# Altium schematic symbol library MM6108IQ MotherBoard_1.SCHLIB: 35 symbols
Pins are listed as number, name and electrical type; pins without a type are passive.

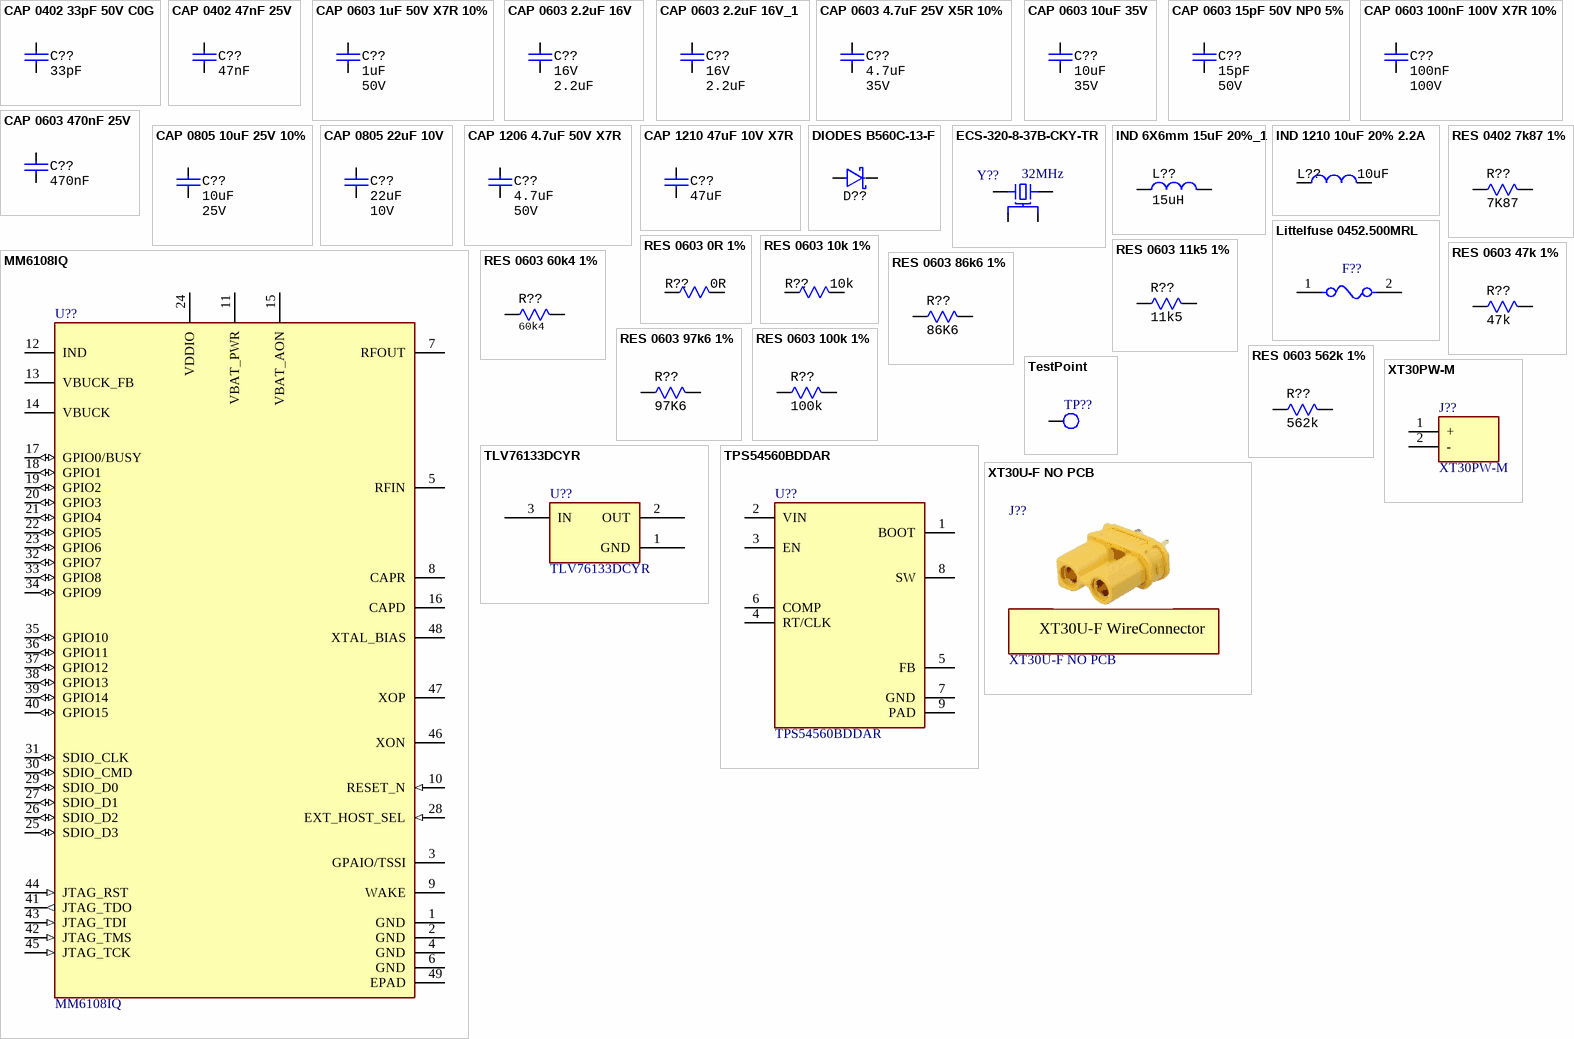
[diagram p0: symbols CAP 0402 33pF 50V C0G to XT30U-F NO PCB]

## CAP 0402 33pF 50V C0G
designator C??, comment 33pF
CAP CER 33pF 50V C0G 0402; Manufacturer: Samsung Electro-Mechanics; Manufacturer Part Number: GRM155R71E473KA88D; Capacitance: 33pF; Supplier: LCSC; Supplier Part Number: C70465; Voltage: 50V
footprint CAP Ceramic SMD 0402
pins: 1, 2

## CAP 0402 47nF 25V
designator C??, comment 47nF
CAP CER 47nF 25V X7R 0402; Manufacturer: muRata; Manufacturer Part Number: GRM155R71E473KA88D; Dielectric Material: Ceramic; Dissipation Factor: 2.5%; Insulation Resistance: 10GR; Tolerance: 10%; Depth: 0.8mm; Capacitance: 47nF; Case Code (Imperial): 0603; Case Code (Metric): 1608; Case/Package: 0402; Category: Ceramic Capacitors; Dielectric: X7R; Halogen Free: Halogen Free; Height: 0.8mm; Lead Free: Lead Free; Length: 1.6mm; Material: Ceramic; Max Operating Temperature: 125°C; Min Operating Temperature: -55°C; Mount: Surface Mount; Number of Pins: 2; Package Quantity: 1; Packaging: Tape and Reel; Radiation Hardening: No; Resistor Type: Ceramic; RoHS Compliant: Yes; Series: CC; Termination: SMD/SMT; Thickness: 0.035inch; Voltage: 25V; Voltage Rating: 25V; Voltage Rating (DC): 25V; Width: 0.031inch; Supplier: LCSC; Supplier Part Number: C77017
footprint CAP Ceramic SMD 0402
pins: 1, 2

## CAP 0603 1uF 50V X7R 10%
designator C??  value 1uF  Voltage: 50V
50V 1uF X7R ±10% 0603 Multilayer Ceramic Capacitors MLCC - SMD/SMT ROHS; Manufacturer: YAGEO; Manufacturer Part Number: CC0603KRX7R9BB105; Supplier: LCSC; Temperature Characteristics Code: X7R; Supplier Part Number: C559769
footprint CAP Ceramic SMD 0603
pins: 1, 2

## CAP 0603 2.2uF 16V
designator C??, comment Voltage: 16V  (hidden comment: 2.2uF)
16V 2.2uF X5R ±10% 0603 Multilayer Ceramic Capacitors MLCC - SMD/SMT ROHS; Manufacturer: YAGEO; Manufacturer Part Number: CC0603KRX5R7BB225; Supplier: LCSC; Supplier Part Number: C106853; Capacitance: 2.2uF
footprint CAP Ceramic SMD 0603
pins: 1, 2

## CAP 0603 2.2uF 16V_1
designator C??, comment Voltage: 16V  (hidden comment: 2.2uF)
16V 2.2uF X5R ±10% 0603 Multilayer Ceramic Capacitors MLCC - SMD/SMT ROHS; Manufacturer: YAGEO; Manufacturer Part Number: CC0603KRX5R7BB225; Supplier: LCSC; Supplier Part Number: C106853; Capacitance: 2.2uF
footprint CAP Ceramic SMD 0603
pins: 1, 2

## CAP 0603 4.7uF 25V X5R 10%
designator C??  value 4.7uF  Voltage: 35V
25V 4.7uF X5R ±10% 0603 Multilayer Ceramic Capacitors MLCC - SMD/SMT ROHS; Manufacturer: Samsung Electro-Mechanics; Manufacturer Part Number: CL10A475KA8NQNC; Supplier: LCSC; Supplier Part Number: C69335; Temperature Characteristics Code: X5R
footprint CAP Ceramic SMD 0603
pins: 1, 2

## CAP 0603 10uF 35V
designator C??, comment Voltage: 35V  (hidden comment: 10uF)
Cap Ceramic 10uF 35V X5R 20% Pad SMD 0603 85C T/R; Manufacturer: Murata; Manufacturer Part Number: GRM188R6YA106MA73D; Supplier: LCSC; RoHS: Yes; Category: Ceramic Capacitors; Mount: Surface Mount; Case/Package: 0603; Case Code (Metric): 1608; Case Code (Imperial): 0603; Min Operating Temperature: -55°C; Max Operating Temperature: 85°C; Packaging: Tape and Reel; Capacitance: 10uF; Voltage Rating: 35V; Tolerance: 20%; Dielectric: X5R; Voltage Rating (DC): 35V; Length: 0.063inch; Width: 0.031inch; Thickness: 0.039inch; RoHS Compliant: Yes; ComponentLink1URL: http://search.murata.co.jp/Ceramy/image/img/A01X/G101/ENG/GRM188R6YA106MA73-01.pdf?src-supplier=Future+Electronics; ComponentLink1Description: http://search.murata.co.jp/Ceramy/image/img/A01X/G101/ENG/GRM188R6YA106MA73-01.pdf?src-supplier=Future+Electronics; ComponentLink2URL: http://search.murata.co.jp/Ceramy/image/img/A01X/G101/ENG/GRM188R6YA106MA73-01.pdf?src-supplier=Digi-Key; ComponentLink2Description: http://search.murata.co.jp/Ceramy/image/img/A01X/G101/ENG/GRM188R6YA106MA73-01.pdf?src-supplier=Digi-Key; ComponentLink3URL: https://www.murata.com/~/media/webrenewal/support/library/catalog/products/capacitor/mlcc/c02e.ashx?la=en-us&src-supplier=Digi-Key; ComponentLink3Description: https://www.murata.com/~/media/webrenewal/support/library/catalog/products/capacitor/mlcc/c02e.ashx?la=en-us&src-supplier=Digi-Key; ComponentLink4URL: http://search.murata.co.jp/Ceramy/image/img/A01X/G101/ENG/GRM188R6YA106MA73-01.pdf?src-supplier=Mouser; ComponentLink4Description: http://search.murata.co.jp/Ceramy/image/img/A01X/G101/ENG/GRM188R6YA106MA73-01.pdf?src-supplier=Mouser; ComponentLink5URL: http://search.murata.co.jp/Ceramy/image/img/A01X/G101/ENG/GRM188R6YA106MA73-01.pdf?src-supplier=TTI; ComponentLink5Description: http://search.murata.co.jp/Ceramy/image/img/A01X/G101/ENG/GRM188R6YA106MA73-01.pdf?src-supplier=TTI; Supplier Part Number: C194427; Value: 10uF
footprint CAP Ceramic SMD 0603
pins: 1, 2

## CAP 0603 15pF 50V NP0 5%
designator C??, comment Voltage: 50V  (hidden comment: 15pF)
50V 15pF NP0 ±5% 0603 Multilayer Ceramic Capacitors MLCC - SMD/SMT ROHS; Manufacturer: Yageo; Manufacturer Part Number: CC0603JRNPO9BN150; Supplier Part Number: C107037; Supplier: LCSC; Value: 15pF
footprint CAP Ceramic SMD 0603
pins: 1, 2

## CAP 0603 100nF 100V X7R 10%
designator C??  value 100nF  Voltage: 100V
100V 100nF X7R ±10% 0603 Multilayer Ceramic Capacitors MLCC - SMD/SMT ROHS; Manufacturer: Yageo; Manufacturer Part Number: CC0603KRX7R0BB104; Supplier: LCSC; Supplier Part Number: C113803; Temperature Characteristics Code: X7R
footprint CAP Ceramic SMD 0603
pins: 1, 2

## CAP 0603 470nF 25V
designator C??, comment 470nF
470nF ±10% 25V Ceramic Capacitor X7R 0603; Manufacturer: Samsung Electro-Mechanics; Manufacturer Part Number: CL10B474KA8NNNC; Dissipation Factor: 2.5%; Insulation Resistance: 10GR; Voltage: 50V; Depth: 0.8mm; Capacitance: 470nF; Case Code (Imperial): 0603; Case Code (Metric): 1608; Case/Package: 0603; Category: Ceramic Capacitors; Dielectric: X7R; Dielectric Material: Ceramic; Halogen Free: Halogen Free; Height: 0.8mm; Lead Free: Lead Free; Length: 1.6mm; Material: Ceramic; Max Operating Temperature: 125°C; Min Operating Temperature: -55°C; Mount: Surface Mount; Number of Pins: 2; Package Quantity: 1; Packaging: Tape and Reel; Radiation Hardening: No; Resistor Type: Ceramic; RoHS Compliant: Yes; Series: CC; Termination: SMD/SMT; Thickness: 0.035inch; Tolerance: 10%; Voltage Rating: 50V; Voltage Rating (DC): 50V; Width: 0.031inch; Supplier: LCSC; Supplier Part Number: C1623
footprint CAP Ceramic SMD 0603
pins: 1, 2

## CAP 0805 10uF 25V 10%
designator C??, comment Voltage: 25V  (hidden comment: 10uF)
CAP CER 10uF 25V X7R 0805; Manufacturer: Samsung Electro-Mechanics; Manufacturer Part Number: CL21B106KAYQNNE; Tolerance: 10%; Supplier: LCSC; RoHS: Yes; Category: Ceramic Capacitors; Mount: Surface Mount; Capacitance: 10uF; Supplier Part Number: C3039694; Value: 10uF
footprint CAP Ceramic SMD 0805
pins: 1, 2

## CAP 0805 22uF 10V
designator C??, comment Voltage: 10V  (hidden comment: 22uF)
CAP CER 22uF 10V X7R 0805; Manufacturer: muRata; Manufacturer Part Number: GRM21BZ71A226ME15L; Tolerance: 20%; Supplier: LCSC; RoHS: Yes; Category: Ceramic Capacitors; Stock 1: 663420; Pricing 1: 20=0.033200, 200=0.025500, 600=0.022100, 2000=0.019600, 10000=0.018600, 20000=0.017900 (AUD); Mount: Surface Mount; Case/Package: 0805; Case Code (Metric): 3216; Case Code (Imperial): 0805; Min Operating Temperature: -55°C; Max Operating Temperature: 125°C; Capacitance: 22uF; Dielectric: X7R; Packaging: Tape and Reel; Voltage Rating: 10V; Package Quantity: 1; Series: CL; Construction: Flat; Length: 3.2mm; Width: 0.063inch; Height: 1.6mm; Thickness: 0.071inch; Depth: 1.6mm; Radiation Hardening: No; RoHS Compliant: Yes; Supplier Part Number: C907991; Value: 22uF
footprint CAP Ceramic SMD 0805
pins: 1, 2

## CAP 1206 4.7uF 50V X7R
designator C??  value 4.7uF  Voltage: 50V
CAP CER 4.7uF 50V X7R 1206; Manufacturer: Samsung Electro-Mechanics; Manufacturer Part Number: CL31B475KBHNNNE; Supplier: LCSC; Supplier Part Number: C51205
footprint CAP Ceramic SMD 1206
pins: 1, 2

## CAP 1210 47uF 10V X7R
designator C??, comment 47uF
47uF ±10% 10V Ceramic Capacitor X7R 1210; Manufacturer: muRata; Manufacturer Part Number: GRM32ER71A476KE15L; Supplier: LCSC; Supplier Part Number: C84494; Case/Package: 1210; Value: 47uF; Temperature Characteristics Code: X7R; Voltage Rating: 10V
footprint CAP Ceramic SMD 1210
pins: 1, 2

## DIODES B560C-13-F
designator D??, comment B360A-13-F  (value not drawn)
Voltage： 60V Current： 5A; Manufacturer: DIODES; Manufacturer Part Number: B560C-13-F; Supplier: LCSC; Supplier Part Number: C85100
footprint DO-214AB
pins: 1, 2

## ECS-320-8-37B-CKY-TR
designator Y??, comment 32MHz
CRYSTAL 32MHz 8pF SMD; Manufacturer: ECS; Manufacturer Part Number: ECS-320-8-37B-CKY-TR; Supplier: LCSC; Supplier Part Number: C2636238
footprint XTAL_ECS-160-9-37-CKM-TR
pins: 1, 2 NC, 3, 4

## IND 6X6mm 15uF 20%_1
designator L??, comment 15uH
FIXED IND 15uH 2.5A 75mΩ SMD,6x6mm; Manufacturer: TDK; Manufacturer Part Number: VLS6045EX-150M; Suppleir Part Number: C404502; Supplier: LCSC
footprint IND SMD VLS6045EX
pins: 1, 2

## IND 1210 10uF 20% 2.2A
designator L??, comment 10uF
FIXED IND 10uH 2.2A 210mΩ 1210; Manufacturer: XR; Manufacturer Part Number: XRTC322512S100MBCA; Supplier: LCSC; Supplier Part Number: C39846661; Value: 10uF
footprint IND SMD 1210
pins: 1, 2

## Littelfuse 0452.500MRL
designator F??, comment 0452.500MRL  (value not drawn)
FUSE BRD MNT 500mA 125VAC/VDC 2410; Manufacturer: Littelfuse; Manufacturer Part Number: 0452.500MRL; Supplier: LCSC; Supplier Part Number: C151120
footprint Fuse SMD 2410 MFG
pins: 1, 2

## MM6108IQ
designator U??
Wi-Fi HaLow (pronounced HEYlow) is the first global Wi-Fi standard (IEEE 802.11ah) tailored to meet the / Internet of Things (IoT) needs. It’s an open standard wireless network technology operating in the sub-1 GHz / license-exempt RF bands (850-950 MHz range); Manufacturer: Morse Micro; Manufacturer Part Number: MM6108IQ; Supplier: *; Supplier Part Number: *
footprint QFN48 6x6
pins: 1 GND "ADC Test Data Out to FPGA (500MHz)", 2 GND "ADC Test Data Out to FPGA (500MHz)", 3 GPAIO/TSSI "ADC Test Data Out to FPGA (500MHz)", 4 GND (power) "ADC Test Data Out to FPGA (500MHz)", 5 RFIN, 6 GND (power), 7 RFOUT, 8 CAPR (power), 9 WAKE, 10 RESET_N (in), 11 VBAT_PWR (power), 12 IND, 13 VBUCK_FB (power), 14 VBUCK (power), 15 VBAT_AON (power), 16 CAPD (power), 17 GPIO0/BUSY (io), 18 GPIO1 (io), 19 GPIO2 (io), 20 GPIO3 (io), 21 GPIO4 (io), 22 GPIO5 (io), 23 GPIO6 (io), 24 VDDIO (power), 25 SDIO_D3 (io), 26 SDIO_D2 (io), 27 SDIO_D1 (io), 28 EXT_HOST_SEL (in), 29 SDIO_D0 (io), 30 SDIO_CMD (io), 31 SDIO_CLK (io), 32 GPIO7 (io), 33 GPIO8 (io), 34 GPIO9 (io), 35 GPIO10 (io), 36 GPIO11 (io), 37 GPIO12 (io), 38 GPIO13 (io), 39 GPIO14 (io), 40 GPIO15 (io), 41 JTAG_TDO (out), 42 JTAG_TMS (in), 43 JTAG_TDI (in), 44 JTAG_RST (in), 45 JTAG_TCK (in), 46 XON, 47 XOP, 48 XTAL_BIAS, 49 EPAD (power)

## RES 0402 7k87 1%
designator R??, comment 7K87
RES 7.87kΩ ±1% 62.5mW 0402; Manufacturer: YAGEO; Manufacturer Part Number: RC0402FR-077K87L; Max Power Dissipation: 100mW; Supplier: LCSC; Resistance: 7K87; Tolerance: 1%; Supplier Part Number: C185394; Stock 2: 800; Pricing 2: 50=0.009200, 500=0.007300, 1500=0.006200, 5000=0.005500, 25000=0.005000, 50000=0.004700 (AUD); Contact Plating: Tin; Number of Terminations: 2; Series: ERJ; Package Quantity: 1; Features: Automotive AEC-Q200; Construction: Rectangular; Resistance Tolerance: 1%; Technology: THICK FILM; Width: 0.031inch; Radiation Hardening: No; Lead Free: Lead Free; Value: 7K87
footprint CAP Ceramic SMD 0402
pins: 1, 2

## RES 0603 0R 1%
designator R??, comment 0R
100mW Thick Film Resistors 75V ±5% 0Ω 0603 Chip Resistor - Surface Mount ROHS; Manufacturer: YAGEO; Manufacturer Part Number: RC0603JR-070RL; Supplier: LCSC; Supplier Part Number: C95177; Value: 0R
footprint RES SMD 0603
pins: 1, 2

## RES 0603 10k 1%
designator R??, comment 10k
100mW Thick Film Resistors 75V ±100ppm/℃ ±1% 10kΩ 0603 Chip Resistor - Surface Mount ROHS; Manufacturer: YAGEO; Manufacturer Part Number: RC0603FR-0710KL; Supplier: LCSC; Supplier Part Number: C98220; Value: 10k
footprint RES SMD 0603
pins: 1, 2

## RES 0603 11k5 1%
designator R??, comment 11k5
RES 11.5kΩ ±1% 100mW 0603; Manufacturer: YAGEO; Manufacturer Part Number: RC0603FR-0711K5L; Supplier Part Number: C137802; Supplier: LCSC; Resistance: 11k5
footprint RES SMD 0603
pins: 1, 2

## RES 0603 47k 1%
designator R??, comment value 47k  (hidden comment: 47kR)
Res Thick Film 0603 47K Ohm 1% 1/10W ±100ppm/°C Molded SMD Punched Carrier T/R; Manufacturer: YAGEO; Manufacturer Part Number: RC0603FR-0747KL; Max Power Dissipation: 100mW; Voltage Rating: 75V; Working Voltage: 6V; Supplier: LCSC; RoHS: Yes; Category: Chip SMD Resistors; Stock 1: 88700; Pricing 1: 50=0.011700, 500=0.009700, 1500=0.008600, 5000=0.008000, 25000=0.007400, 50000=0.007100 (AUD); Mount: Surface Mount; Case/Package: 0603; Number of Pins: 2; Case Code (Metric): 1608; Case Code (Imperial): 0603; Contact Plating: Tin; Min Operating Temperature: -55°C; Max Operating Temperature: 155°C; Resistance: 47kR; Tolerance: 1%; Packaging: Tape and Reel; Temperature Coefficient: 100ppm/°C; Resistor Type: Thick Film; Number of Terminations: 2; Power Rating: 100mW; Series: ERJ; Package Quantity: 5000; Voltage Rating (DC): 75V; Features: Automotive AEC-Q200; Termination: SMD/SMT; Construction: Rectangular; Resistance Tolerance: 1%; Technology: THICK FILM; Length: 1.6mm; Width: 0.8mm; Height: 0.45mm; Depth: 0.8mm; Radiation Hardening: No; RoHS Compliant: Yes; Lead Free: Lead Free; Military Standard: Not; REACH SVHC: No SVHC; ComponentLink1URL: https://datasheet.ciiva.com/6138/aoa0000ce2-6138149.pdf?src-supplier=Farnell; ComponentLink1Description: https://datasheet.ciiva.com/6138/aoa0000ce2-6138149.pdf?src-supplier=Farnell; ComponentLink2URL: https://datasheet.ciiva.com/7802/aoa0000ce2-7802421.pdf?src-supplier=Element14; ComponentLink2Description: https://datasheet.ciiva.com/7802/aoa0000ce2-7802421.pdf?src-supplier=Element14; ComponentLink3URL: https://datasheet.ciiva.com/46398/1678782-46398088.pdf?src-supplier=Element14; ComponentLink3Description: https://datasheet.ciiva.com/46398/1678782-46398088.pdf?src-supplier=Element14; ComponentLink4URL: https://datasheet.ciiva.com/22722/426256-22722781.pdf?src-supplier=Element14; ComponentLink4Description: https://datasheet.ciiva.com/22722/426256-22722781.pdf?src-supplier=Element14; ComponentLink5URL: https://datasheet.ciiva.com/46398/1678782-46398089.pdf?src-supplier=Element14; ComponentLink5Description: https://datasheet.ciiva.com/46398/1678782-46398089.pdf?src-supplier=Element14; ComponentLink6URL: https://datasheet.ciiva.com/24069/aoa0000ce2-24069209.pdf?src-supplier=Mouser; ComponentLink6Description: https://datasheet.ciiva.com/24069/aoa0000ce2-24069209.pdf?src-supplier=Mouser; ComponentLink7URL: https://datasheet.ciiva.com/16758/70260748-16758831.pdf?src-supplier=Allied+Electronics; ComponentLink7Description: https://datasheet.ciiva.com/16758/70260748-16758831.pdf?src-supplier=Allied+Electronics; ComponentLink8URL: https://datasheet.ciiva.com/48531/aoa0000ce2-48531029.pdf?src-supplier=Avnet; ComponentLink8Description: https://datasheet.ciiva.com/48531/aoa0000ce2-48531029.pdf?src-supplier=Avnet; ComponentLink9URL: https://datasheet.ciiva.com/30236/aoa0000ce2-30236698.pdf?src-supplier=Onlinecomponents.com; ComponentLink9Description: https://datasheet.ciiva.com/30236/aoa0000ce2-30236698.pdf?src-supplier=Onlinecomponents.com; Supplier Part Number: C105579
footprint RES SMD 0603
pins: 1, 2

## RES 0603 60k4 1%
designator R??, comment 60k4
RES 60.4kΩ ±1% 100mW 0603; Manufacturer: Yageo; Manufacturer Part Number: RC0603FR-0760K4L; Voltage Rating: 50V; Temperature Coefficient: 100ppm/°C; Resistance: 60k4; Supplier: LCSC; Supplier Part Number: C165742; RoHS: Yes; Category: Chip SMD Resistors; Stock: 51500; Pricing: 100=0.0013 (USD); Case/Package: 0603; Number of Pins: 2; Case Code (Metric): 1608; Case Code (Imperial): 0603; Size Code: 0603; Min Operating Temperature: -55°C; Max Operating Temperature: 155°C; Package Quantity: 1; Power Rating: 100mW; Tolerance: 1%; Packaging: Tape and Reel; Voltage Rating (DC): 50V; Resistor Type: Thick Film; Number of Terminations: 2; Termination: SMD/SMT; Max Power Dissipation: 100mW; Features: Moisture Resistant; Series: RC; Resistance Tolerance: 1%; Technology: THICK FILM; Construction: Rectangular; Length: 1.6mm; Width: 0.8mm; Height: 0.45mm; Depth: 0.8mm; Military Standard: Not; Lead Free: Lead Free; RoHS Compliant: Yes
footprint RES SMD 0603
pins: 1, 2

## RES 0603 86k6 1%
designator R??, comment 86K6
RES 86.6kΩ ±1% 100mW 0603; Manufacturer: YAGEO; Manufacturer Part Number: RC0603FR-0786K6L; Supplier Part Number: C141683; Supplier: LCSC; Resistance: 86K6
footprint RES SMD 0603
pins: 1, 2

## RES 0603 97k6 1%
designator R??, comment 97K6
97.6kΩ 100mW 75V Thick Film Resistor ±100ppm/℃ ±1% 0603 Chip Resistor - Surface Mount RoHS; Manufacturer: YAGEO; Manufacturer Part Number: AC0603FR-0797K6L; Supplier: LCSC; Supplier Part Number: C228109; Value: 97K6
footprint RES SMD 0603
pins: 1, 2

## RES 0603 100k 1%
designator R??, comment 100k
100mW Thick Film Resistors 75V ±100ppm/℃ ±1% 100kΩ 0603 Chip Resistor - Surface Mount ROHS; Manufacturer: YAGEO; Manufacturer Part Number: RC0603FR-07100KL; Supplier Part Number: C14675; Supplier: LCSC; Value: 100k
footprint RES SMD 0603
pins: 1, 2

## RES 0603 562k 1%
designator R??, comment 562k
100mW 562kΩ 75V Thick Film Resistor ±100ppm/℃ ±1% 0603 Chip Resistor - Surface Mount RoHS; Manufacturer: YAGEO; Manufacturer Part Number: RC0603FR-07562KL; Supplier: LCSC; Supplier Part Number: C185319; Value: 562k
footprint RES SMD 0603
pins: 1, 2

## TestPoint
designator TP??  (value not drawn)  (no BOM)
footprint TestPoint Surface 0.8mm
footprint TestPoint Surface 1.2mm
footprint TestPoint TH 1.6mm
footprint TestPoint Surface 1mm
pins: 1

## TLV76133DCYR
designator U??
3V3 Linear Voltage Regulator IC Positive Fixed 1 Output 1A SOT-223; Manufacturer: TI; Manufacturer Part Number: TLV76133DCYR; Supplier: LCSC; Supplier Part Number: C7527500
footprint SOT-223
pins: 1 GND, 2 OUT, 3 IN

## TPS54560BDDAR
designator U??
4.5V to 60V input, 5A step-down DC/DC converter; Manufacturer: TI; Manufacturer Part Number: TPS54560BDDAR; Supplier: LCSC; Supplier Part Number: C1850354
footprint LMR14050
pins: 1 BOOT, 2 VIN, 3 EN, 4 RT/CLK, 5 FB, 6 COMP, 7 GND, 8 SW, 9 PAD

## XT30PW-M
designator J??
Power Connectors ROHS; Manufacturer: Changzhou Amass Elec; Manufacturer Part Number: XT30PW-M30.G.Y; Supplier: LCSC; Supplier Part Number: C431092
footprint XT30PW-M
pins: 1 +, 2 -

## XT30U-F NO PCB
designator J??  (mechanical)
Power Connectors ROHS; Manufacturer: Changzhou Amass Elec; Manufacturer Part Number: XT30U-F; Supplier: LCSC; Supplier Part Number: C99102
text: XT30U-F WireConnector